# EAGLE library part S6P (library connect)
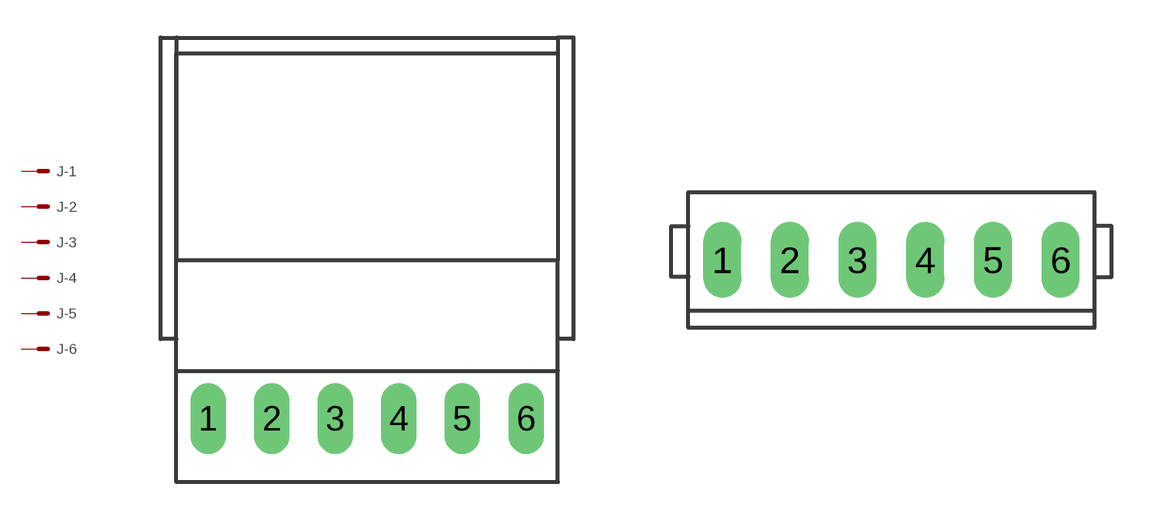
[diagram p2: symbol with the pads of 6P-L; footprints 6P-L, 6P-S]

Designator prefix J; gates -1=M -2=M -3=M -4=M -5=M -6=M

## S6P  [6P-L]
1  -1:S  pas
2  -2:S  pas
3  -3:S  pas
4  -4:S  pas
5  -5:S  pas
6  -6:S  pas

## S6P-S  [6P-S]
Pads as for 6P-L

## Footprint 6P-L (pad centres in mm)
drill 0.813 pad 1.422 long: 1 -6.35,0; 2 -3.81,0; 3 -1.27,0; 4 1.27,0; 5 3.81,0; 6 6.35,0

## Footprint 6P-S (pad centres in mm)
drill 0.61 pad 1.422 long: 1 -6.35,0; 2 -3.81,0; 3 -1.27,0; 4 1.27,0; 5 3.81,0; 6 6.35,0